# EAGLE library part TLV5614M (library texas)
4-CHANNEL DAC 2.7V TO 5.5V, 12-BIT WITH POWERDOWN
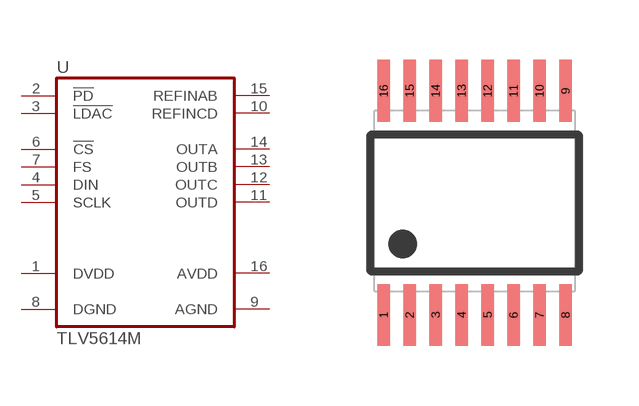
[diagram p73: symbol with the pads of TSSOP16; footprint TSSOP16]

Designator prefix U

## TLV5614MPW  [TSSOP16]
1  DVDD  pwr
2  !PD!  in
3  !LDAC!  in
4  DIN  in
5  SCLK  in
6  !CS!  in
7  FS  in
8  DGND  pwr
9  AGND  pwr
10  REFINCD  in
11  OUTD  out
12  OUTC  out
13  OUTB  out
14  OUTA  out
15  REFINAB  in
16  AVDD  pwr

## Footprint TSSOP16 (pad centres in mm)
Thin Shrink Small Outline Plastic 16
smd 0.31 x 1.55: 1 -2.275,-2.8; 2 -1.625,-2.8; 3 -0.975,-2.8; 4 -0.325,-2.8; 5 0.325,-2.8; 6 0.975,-2.8; 7 1.625,-2.8; 8 2.275,-2.8; 9 2.275,2.8; 10 1.625,2.8; 11 0.975,2.8; 12 0.325,2.8; 13 -0.325,2.8; 14 -0.975,2.8; 15 -1.625,2.8; 16 -2.275,2.8